# EAGLE library part EA_DOGMXXX-A (library io_board)
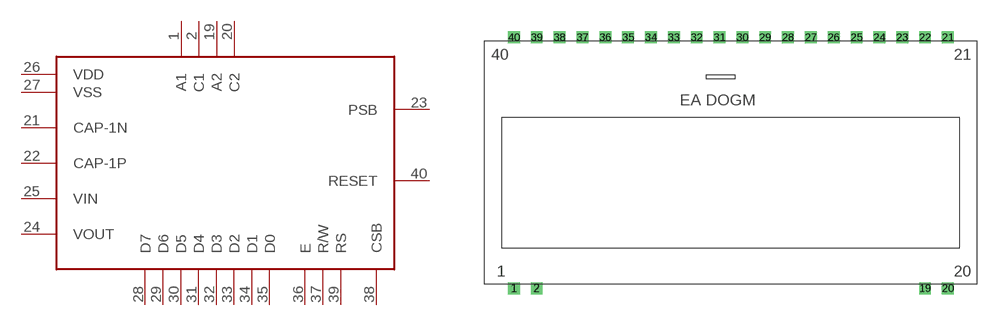
[diagram p0: symbol with the pads of EADOGM; footprint EADOGM]

Designator prefix -

## EA_DOGMXXX-A  [EADOGM]
1  A1
2  C1
19  A2
20  C2
21  CAP-1N
22  CAP-1P
23  PSB
24  VOUT
25  VIN
26  VDD
27  VSS
28  D7
29  D6
30  D5
31  D4
32  D3
33  D2
34  D1
35  D0
36  E
37  R/W
38  CSB
39  RS
40  RESET

## Footprint EADOGM (pad centres in mm)
drill 0.813 square: 1 -21.59,-13.97; 2 -19.05,-13.97; 19 24.13,-13.97; 20 26.67,-13.97; 21 26.67,13.97; 22 24.13,13.97; 23 21.59,13.97; 24 19.05,13.97; 25 16.51,13.97; 26 13.97,13.97; 27 11.43,13.97; 28 8.89,13.97; 29 6.35,13.97; 30 3.81,13.97; 31 1.27,13.97; 32 -1.27,13.97; 33 -3.81,13.97; 34 -6.35,13.97; 35 -8.89,13.97; 36 -11.43,13.97; 37 -13.97,13.97; 38 -16.51,13.97; 39 -19.05,13.97; 40 -21.59,13.97